# EAGLE library part 691402910004 (library Wuerth_Elektronik_eiCan_Terminal_Blocks_v2.0)
WR-TBL Serie 4029 - 2.54mm Screwless Horizontal Entry - 0.5mm2 Wires, 4 Pins
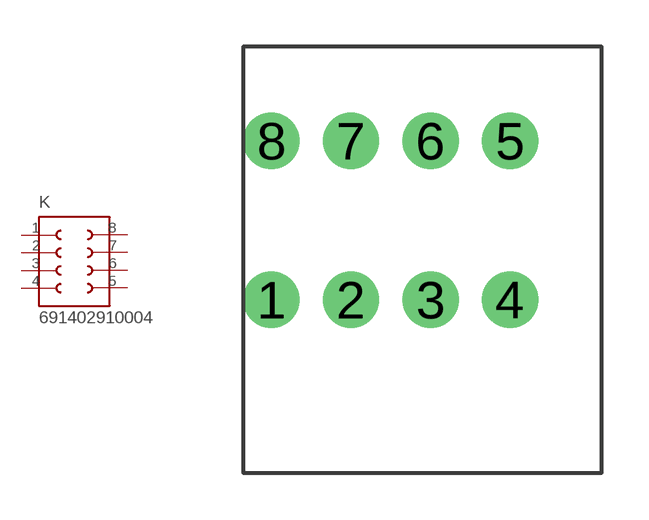
[diagram p204: symbol with the pads of 691402910004; footprint 691402910004]

Designator prefix K

## 691402910004  [691402910004]
1  1  pas
2  2  pas
3  3  pas
4  4  pas
5  5  pas
6  6  pas
7  7  pas
8  8  pas

## Footprint 691402910004 (pad centres in mm)
WR-TBL Serie 4029 - 2.54mm Screwless Horizontal Entry - 0.5mm2 Wires, 4 Pins
drill 1.2 round: 1 -5.08,0; 2 -2.54,0; 3 0,0; 4 2.54,0; 5 2.54,5.08; 6 0,5.08; 7 -2.54,5.08; 8 -5.08,5.08